# Altium schematic symbol library D_ZENER.SchLib: 1 symbol
Pins are listed as number, name and electrical type; pins without a type are passive.

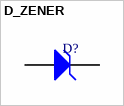
[diagram p0: symbol D_ZENER]

## D_ZENER
designator D?  (value not drawn)
pins: 1 K, 2 A